# EAGLE library part THG22BMC4 (library old_mpnl)
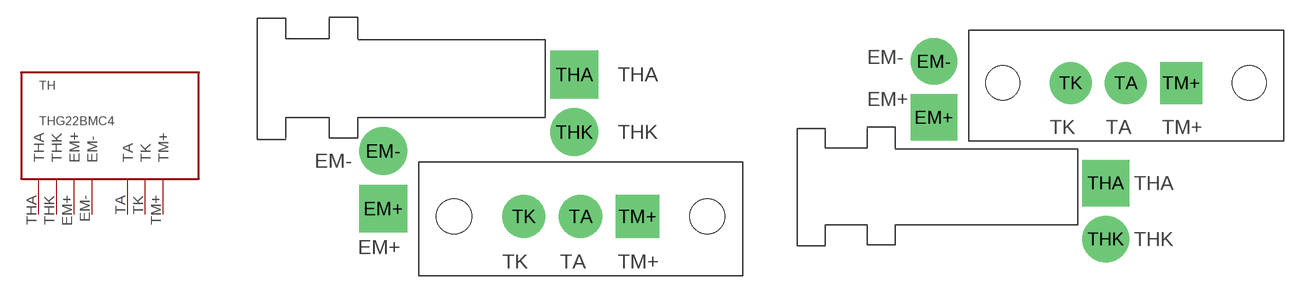
[diagram p2: symbol with the pads of TH-G22BMC4-LH; footprints TH-G22BMC4-LH, TH-G22BMC4-RH]

Designator prefix TH

## THG22BMC4LH  [TH-G22BMC4-LH]
EM+  EM+
EM-  EM-
TA  TA
THA  THA
THK  THK
TK  TK
TM+  TM+

## THG22BMC4RH  [TH-G22BMC4-RH]
Pads as for TH-G22BMC4-LH

## Footprint TH-G22BMC4-LH (pad centres in mm)
drill 3.2 square: EM+ 11.11,-6.115; THA 27.94,5.715
drill 3.2: EM- 11.11,-1.035; THK 27.94,0.635
drill 2 pad 3.81: TA 28.5,-6.8; TK 23.5,-6.8
drill 2 pad 3.81 square: TM+ 33.5,-6.8
hole 3.1 at 39.65,-6.8
hole 3.1 at 17.35,-6.8

## Footprint TH-G22BMC4-RH (pad centres in mm)
drill 3.2 square: EM+ -7.94,11.665; THA 7.62,5.715
drill 3.2: EM- -7.94,16.745; THK 7.62,0.635
drill 2 pad 3.81: TA 9.45,14.79; TK 4.45,14.79
drill 2 pad 3.81 square: TM+ 14.45,14.79
hole 3.1 at 20.6,14.79
hole 3.1 at -1.7,14.79